# Altium schematic symbol library PWL.SchLib: 9 symbols
Pins are listed as number, name and electrical type; pins without a type are passive.

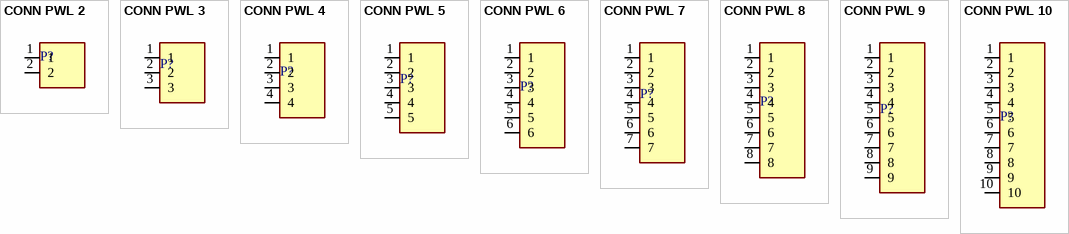
[diagram p0: symbols CONN PWL 2 to CONN PWL 10]

## CONN PWL 2
designator P?
Power Terminal 2pin,Header, 2-Pin; DatasheetVersion: 2022
footprint PWL_2 (Connector; Header; 2 Position)
pins: 1, 2

## CONN PWL 3
designator P?
Power Terminal 3pin,Header, 3-Pin; DatasheetVersion: 2022
footprint PWL_3 (Connector; Header; 3 Position)
pins: 1, 2, 3

## CONN PWL 4
designator P?
Power Terminal 4pin,Header, 4-Pin; DatasheetVersion: 2022
footprint PWL_4 (Connector; Header; 4 Position)
pins: 1, 2, 3, 4

## CONN PWL 5
designator P?
Power Terminal 5pin,Header, 5-Pin; DatasheetVersion: 2022
footprint PWL_5 (Connector; Header; 5 Position)
pins: 1, 2, 3, 4, 5

## CONN PWL 6
designator P?
Power Terminal 6pin,Header, 6-Pin; DatasheetVersion: 2022
footprint PWL_6 (Connector; Header; 6 Position)
pins: 1, 2, 3, 4, 5, 6

## CONN PWL 7
designator P?
Power Terminal 7pin,Header, 7-Pin; DatasheetVersion: 2022
footprint PWL_7 (Connector; Header; 7 Position)
pins: 1, 2, 3, 4, 5, 6, 7

## CONN PWL 8
designator P?
Power Terminal 8pin,Header, 8-Pin; DatasheetVersion: 2022
footprint PWL_8 (Connector; Header; 8 Position)
pins: 1, 2, 3, 4, 5, 6, 7, 8

## CONN PWL 9
designator P?
Power Terminal 9pin,Header, 9-Pin; DatasheetVersion: 2022
footprint PWL_9 (Connector; Header; 9 Position)
pins: 1, 2, 3, 4, 5, 6, 7, 8, 9

## CONN PWL 10
designator P?
Power Terminal 10pin,Header, 10-Pin; DatasheetVersion: 2022
footprint PWL_10 (Connector; Header; 10 Position)
pins: 1, 2, 3, 4, 5, 6, 7, 8, 9, 10